# EAGLE library part CON_1.27_8 (library BlueBoard)
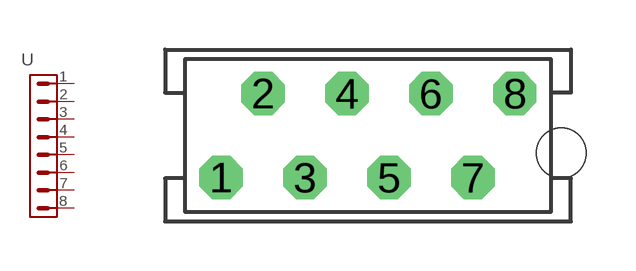
[diagram p9: symbol with the pads of CON_1.27_8; footprint CON_1.27_8]

Designator prefix -

## CON_1.27_8  [CON_1.27_8]
1  1
2  2
3  3
4  4
5  5
6  6
7  7
8  8

## Footprint CON_1.27_8 (pad centres in mm)
drill 0.8 octagon: 1 -4.445,-1.27; 2 -3.175,1.27; 3 -1.905,-1.27; 4 -0.635,1.27; 5 0.635,-1.27; 6 1.905,1.27; 7 3.175,-1.27; 8 4.445,1.27
hole 1.5 at 5.845,-0.53